# Altium footprint library R78K5010.PcbLib: 1 footprints
Each footprint in its own frame and in the unit in brackets; x right, y up, seen from the top. Pads: shape width x height; smd on the part's side, far side on the other; paste and mask are expansions set on the pad; w line width, h text height; cw(c..) or ccw(c..) is an arc to the next point about the centre after c.
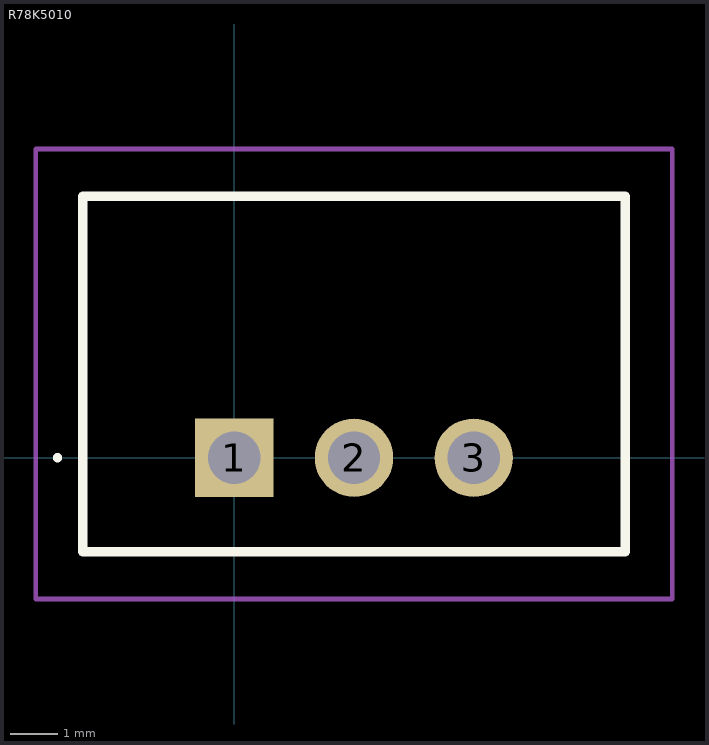
[diagram p0: the footprint, top view; thin cyan lines are the x and y axes]

## R78K5010 [mm]
pads (3):
  rect 1.665x1.665 hole 1.11: 1(0,0)
  round 1.665 hole 1.11: 2(2.54,0) 3(5.08,0)
Top Overlay:
  lines w0.1: -3.8,0 cw(c-3.75,0) -3.7,0 ; -3.8,0 -3.8,0 ; -3.8,0 ccw(c-3.75,0) -3.7,0 ; -3.7,0 -3.7,0
  lines w0.2: -3.21,-2 8.29,-2 8.29,5.55 -3.21,5.55 -3.21,-2
Mechanical 15:
  lines w0.1: -3.21,-2 8.29,-2 8.29,5.55 -3.21,5.55 -3.21,-2
Mechanical 20:
  lines w0.1: -4.21,-3 9.29,-3 9.29,6.55 -4.21,6.55 -4.21,-3